# Altium schematic symbol library Cuk_30Gan_Project.SCHLIB: 48 symbols
Pins are listed as number, name and electrical type; pins without a type are passive.

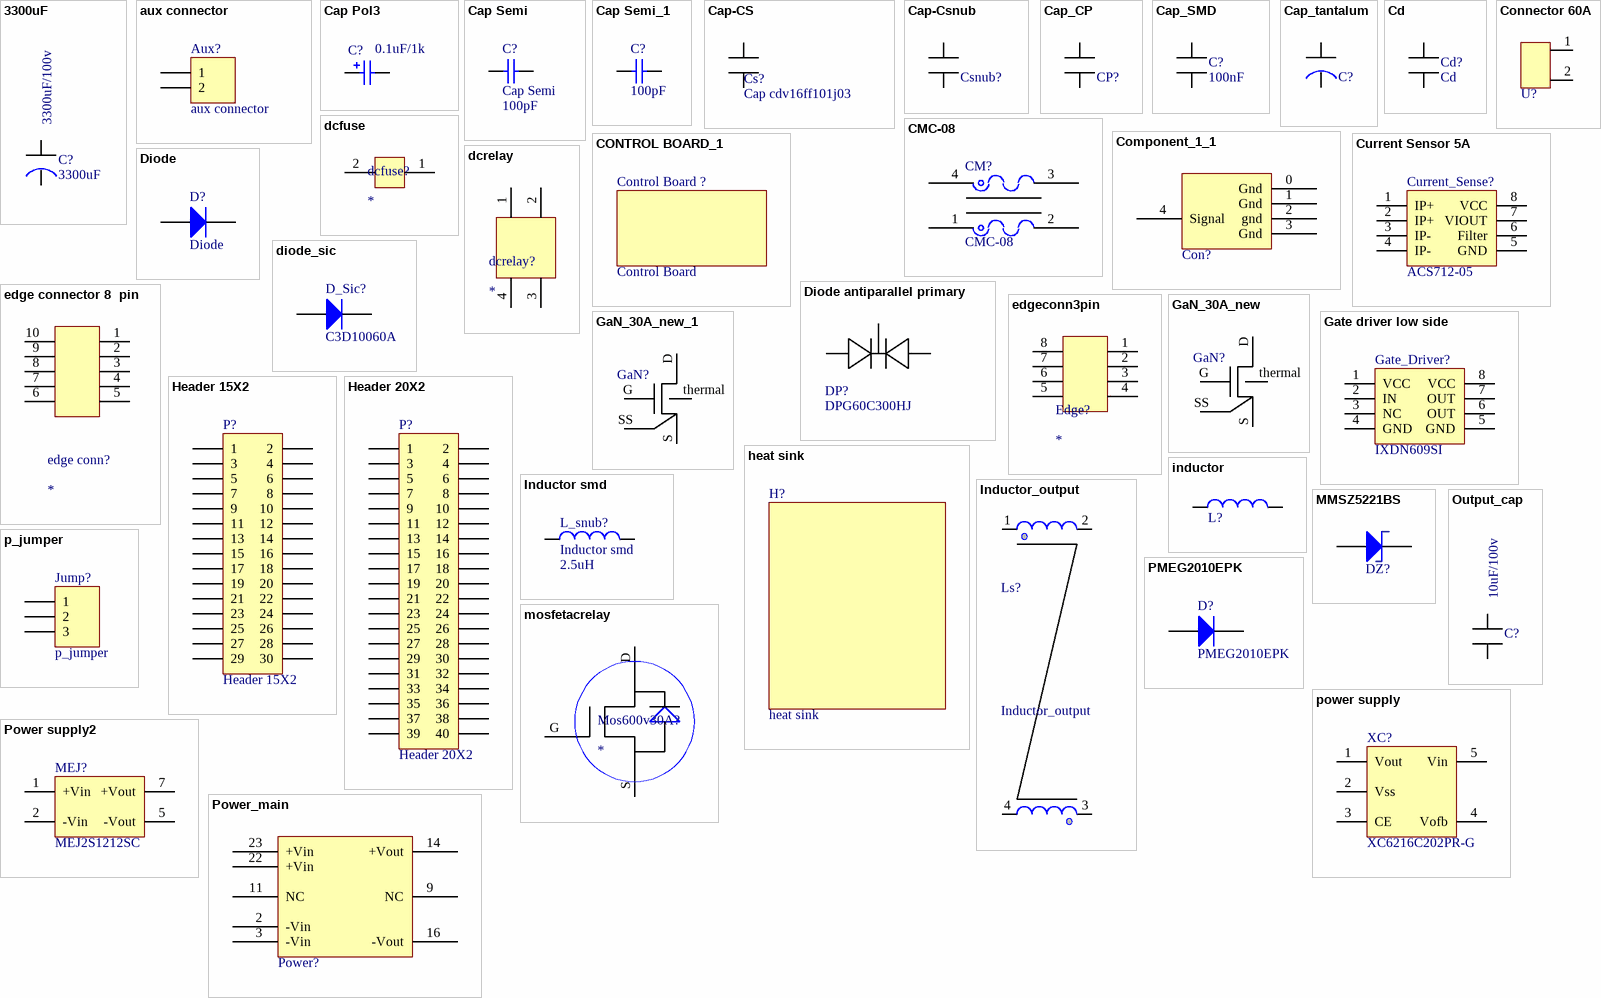
[diagram p0: symbols 3300uF to Power_main]

## 3300uF
designator C?
Electrolytic cap
footprint Cap_3300uF
pins: +, -
1 alternate drawing of the same symbol
text: 3300uF/100v

## aux connector
designator Aux?
footprint Aux connector
pins: 1, 2

## Cap Pol3
designator C?  value 0.1uF/1k  (hidden comment: Cap Pol3)
Polarized Capacitor (Surface Mount); Published: 8-Jun-2000; LatestRevisionDate: 29-May-2009; LatestRevisionNote: IPC-7351 Footprint Added.; PackageReference: C0805; Publisher: Altium Limited; PackageDescription: Chip Capacitor
footprint C0805 (Chip Capacitor, Body 2.0x1.3mm, IPC High Density)
footprint 1812 (Chip Capacitor, Body 4.5x3.2mm, IPC High Density)
footprint 1825 (Chip Capacitor, Body 4.5x6.4mm, IPC High Density)
footprint C2225 (Chip Capacitor, Body 5.7x6.4mm, IPC High Density)
footprint 2220 (Chip Capacitor, Body 5.7x5.0mm, IPC High Density)
simulation model CAP (Capacitor)
signal-integrity model Cap Pol
pins: 1, 2
1 alternate drawing of the same symbol

## Cap Semi
designator C?  value 100pF
Capacitor (Semiconductor SIM Model); Published: 8-Jun-2000; LatestRevisionDate: 29-May-2009; LatestRevisionNote: IPC-7351 Footprint Added.; PackageReference: C1206; Publisher: Altium Limited; PackageDescription: Chip Capacitor
simulation model CAP (Semiconductor Capacitor)
signal-integrity model Cap Semi
footprint CAPC1005L (Chip Capacitor, Body 1.0x0.5mm, IPC High Density)
footprint CAPC1608L (Chip Capacitor, Body 1.6x0.8mm, IPC High Density)
footprint CAPC2512L (Chip Capacitor, Body 2.54x1.27mm, IPC High Density)
footprint CAPC3216L (Chip Capacitor, Body 3.2x1.6mm, IPC High Density)
footprint CAPC3225L (Chip Capacitor, Body 3.2x2.5mm, IPC High Density)
pins: 1, 2

## Cap Semi_1
designator C?, comment value 100pF  (hidden comment: Cap Semi)
Capacitor (Semiconductor SIM Model); Published: 8-Jun-2000; LatestRevisionDate: 29-May-2009; LatestRevisionNote: IPC-7351 Footprint Added.; PackageReference: C1206; Publisher: Altium Limited; PackageDescription: Chip Capacitor
footprint C1206 (Chip Capacitor, Body 3.2x1.6mm, IPC High Density)
footprint 0402 (Chip Capacitor, Body 1.0x0.5mm, IPC High Density)
footprint C2512 (Chip Capacitor, Body 2.54x1.27mm, IPC High Density)
footprint 1608[0603] (Chip Capacitor, Body 1.6x0.8mm, IPC High Density)
footprint C1210 (Chip Capacitor, Body 3.2x2.5mm, IPC High Density)
simulation model CAP (Semiconductor Capacitor)
signal-integrity model Cap Semi
pins: 1, 2

## Cap-CS
designator Cs?, comment Cap cdv16ff101j03
footprint Cap-Cs
pins: 1, 2

## Cap-Csnub
designator Csnub?, comment Cap DPPM10S22K-F  (value not drawn)
footprint Cap-Csnub
pins: 1, 2

## Cap_CP
designator CP?  (value not drawn)
footprint Cap_cp
pins: 1, 2

## Cap_SMD
designator C?, comment 100nF
footprint Cap_SMD
pins: 1, 2

## Cap_tantalum
designator C?, comment 22uF  (value not drawn)
footprint Cap_tantalum
pins: 1, 2

## Cd
designator Cd?
footprint Cd
pins: 1, 2

## CMC-08
designator CM?
Common mode choke
footprint PCBComponent_1
pins: 1, 2, 3, 4

## Component_1_1
designator Con?, comment Component_1  (value not drawn)
footprint PCBComponent_1
pins: 0 Gnd, 1 Gnd, 2 gnd, 3 Gnd, 4 Signal

## Connector 60A
designator U?  (value not drawn)
footprint Connector_60A
pins: 1, 2 1

## CONTROL BOARD_1
designator Control Board ?, comment Control Board
footprint cONTROL bOARD

## Current Sensor 5A
designator Current_Sense?, comment ACS712-05
footprint SOIC-8
pins: 1 IP+, 2 IP+, 3 IP-, 4 IP-, 5 GND, 6 Filter, 7 VIOUT, 8 VCC

## dcfuse
designator dcfuse?
footprint dcf
pins: 1, 2

## dcrelay
designator dcrelay?
footprint newdcrelay
pins: 1, 2, 3, 4

## Diode
designator D?
VS-4ESH02HM3
footprint TO-277A (Diode)
pins: 1 A, 2 K

## Diode antiparallel primary
designator DP?, comment DPG60C300HJ
footprint Diode antiparallel
pins: 1, 2, 3

## diode_sic
designator D_Sic?, comment C3D10060A
footprint diode_sic
pins: 1 K, 3 A

## edge connector 8  pin
designator edge conn?
footprint Header5X2
pins: 1, 2, 3, 4, 5, 6, 7, 8, 9, 10

## edgeconn3pin
designator Edge?
footprint edgeconnec4
pins: 1, 2, 3, 4, 5, 6, 7, 8

## GaN_30A_new
designator GaN?  (value not drawn)
footprint GaN_30A_new
pins: D 3, G 0, S 2, SS 1, thermal 4

## GaN_30A_new_1
designator GaN?, comment GaN_30A_small  (value not drawn)
footprint GaN_30A_new
pins: D 3, G 0, S 2, SS 1, thermal 4

## Gate driver low side
designator Gate_Driver?, comment IXDN609SI
footprint Gate driver _low side
pins: 1 VCC, 2 IN, 3 NC, 4 GND, 5 GND, 6 OUT, 7 OUT, 8 VCC

## Header 15X2
designator P?
Header, 15-Pin, Dual row; LatestRevisionDate: 17-Jul-2002; LatestRevisionNote: Re-released for DXP Platform.; Publisher: Altium Limited
footprint HDR2X15 (Connector; Header; 15x2 Position)
signal-integrity model Connector
pins: 1, 2, 3, 4, 5, 6, 7, 8, 9, 10, 11, 12, 13, 14, 15, 16, 17, 18, 19, 20, 21, 22, 23, 24, 25, 26, 27, 28, 29, 30

## Header 20X2
designator P?
Header, 20-Pin, Dual row; LatestRevisionDate: 17-Jul-2002; LatestRevisionNote: Re-released for DXP Platform.; Publisher: Altium Limited
footprint HDR2X20 (Connector; Header; 20x2 Position)
signal-integrity model Connector
pins: 1, 2, 3, 4, 5, 6, 7, 8, 9, 10, 11, 12, 13, 14, 15, 16, 17, 18, 19, 20, 21, 22, 23, 24, 25, 26, 27, 28, 29, 30, 31, 32, 33, 34, 35, 36, 37, 38, 39, 40

## heat sink
designator H?

## inductor
designator L?  (value not drawn)
footprint Inductor
footprint Inductor
pins: 1 +, 2 -

## Inductor smd
designator L_snub?
footprint Inductor surface mount
pins: 1 +, 2 -
text: 2.5uH

## Inductor_output
designator Ls?
footprint Inductor output
pins: 1 +, 2 -, 3 -, 4 +

## MMSZ5221BS
designator DZ?  (value not drawn)
footprint MMSZ5221BS (SODFL, 2-Leads, Body 1.30x2.50mm, IPC Medium Density)
pins: 1 K, 2 A

## mosfetacrelay
designator Mos600v30A?
footprint mosfet600v30A
footprint mosfet600v30A
pins: D, G, S

## Output_cap
designator C?  (value not drawn)
footprint Output cap
pins: 1, 2
text: 10uF/100v

## p_jumper
designator Jump?
footprint Jumper
pins: 1, 2, 3

## PMEG2010EPK
designator D?
footprint PMEG2010EPK
pins: 0 K, 1 A

## power supply
designator XC?, comment XC6216C202PR-G
footprint SOT-89-5
pins: 1 Vout, 2 Vss, 3 CE, 4 Vofb, 5 Vin

## Power supply2
designator MEJ?, comment MEJ2S1212SC
footprint MEJ2
pins: 1 +Vin, 2 -Vin, 5 -Vout, 7 +Vout

## Power_main
designator Power?  (value not drawn)
footprint Power_main
pins: 2 -Vin, 3 -Vin, 9 NC, 11 NC, 14 +Vout, 16 -Vout, 22 +Vin, 23 +Vin

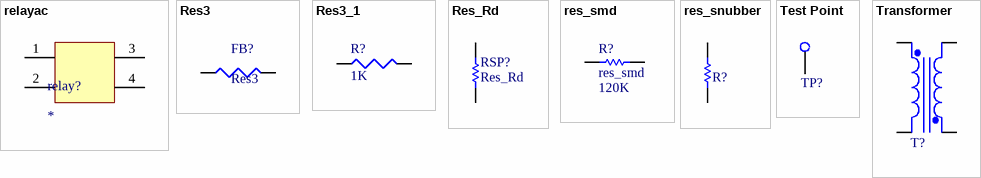
[diagram p1: symbols relayac to Transformer]

## relayac
designator relay?
footprint acrelay
footprint acrelay
pins: 1, 2, 3 2, 4 2

## Res3
designator FB?
Resistor; Value: 1K; Published: 8-Jun-2000; LatestRevisionDate: 29-May-2009; LatestRevisionNote: IPC-7351 Footprint Added.; PackageReference: J1-0603; Publisher: Altium Limited; PackageDescription: Chip Resistor
simulation model RESISTOR (Resistor)
signal-integrity model Res
footprint RESC1608L (Chip Resistor, Body 1.6x0.8mm, IPC High Density)
footprint RESC3225L (Chip Resistor, Body 3.2x2.5mm, IPC High Density)
footprint RESC5025L (Chip Resistor, Body 5.0x2.5mm, IPC High Density)
footprint RESC6332L (Chip Resistor, Body 6.3x3.2mm, IPC High Density)
pins: 1, 2

## Res3_1
designator R?, comment value 1K  (hidden comment: Res3)
Resistor; Published: 8-Jun-2000; LatestRevisionDate: 29-May-2009; LatestRevisionNote: IPC-7351 Footprint Added.; PackageReference: J1-0603; Publisher: Altium Limited; PackageDescription: Chip Resistor
footprint J1-0603 (Chip Resistor, Body 1.6x0.8mm, IPC High Density)
footprint 14-1210 (Chip Resistor, Body 3.2x2.5mm, IPC High Density)
footprint 12Z-2010 (Chip Resistor, Body 5.0x2.5mm, IPC High Density)
footprint RESC6332 (Chip Resistor, Body 6.3x3.2mm, IPC High Density)
simulation model RESISTOR (Resistor)
signal-integrity model Res
pins: 1, 2

## Res_Rd
designator RSP?
footprint Res-RS
pins: 1, 2

## res_smd
designator R?
smd_res
footprint res_smd
pins: 1, 2
text: 120K

## res_snubber
designator R?  (value not drawn)
snubber_res_film
footprint Res_Snub
pins: 1 12, 2

## Test Point
designator TP?  (value not drawn)
footprint Test Point
pins: 1 TP?

## Transformer
designator T?  (value not drawn)
1:2
footprint Transformer
pins: 1 P1, 2 P2, 3 S2, 4 S1